# EAGLE library part HSWA4-63DR+ (library Air_Link)
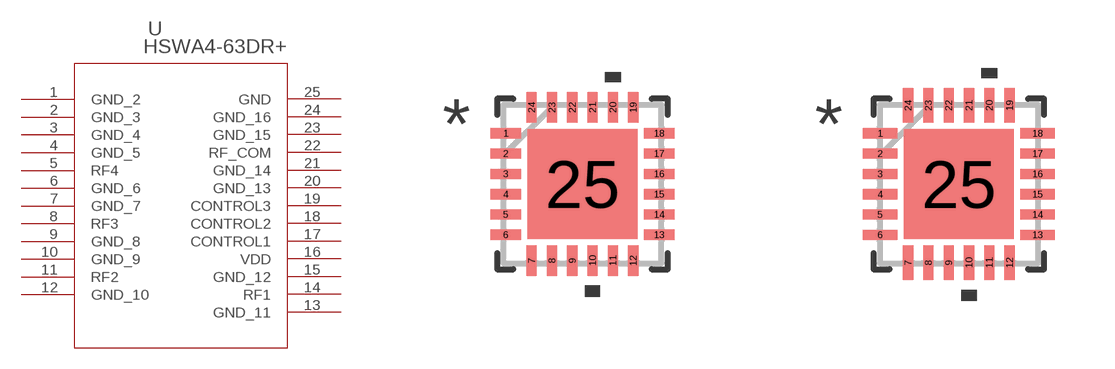
[diagram p3: symbol with the pads of DG984-1_MNC; footprints DG984-1_MNC, DG984-1_MNC-M]

Designator prefix U

## HSWA4-63DR+ (COPYRIGHT: Copyright (C) 2025 Ultra Librarian. All rights reserved.; MANUFACTURER_PART_NUMBER: HSWA4-63DR+; MFR_NAME: Mini Circuits)  [DG984-1_MNC]
1  GND_2  pas
2  GND_3  pas
3  GND_4  pas
4  GND_5  pas
5  RF4
6  GND_6  pas
7  GND_7  pas
8  RF3
9  GND_8  pas
10  GND_9  pas
11  RF2
12  GND_10  pas
13  GND_11  pas
14  RF1
15  GND_12  pas
16  VDD  pwr
17  CONTROL1  in
18  CONTROL2  in
19  CONTROL3  in
20  GND_13  pas
21  GND_14  pas
22  RF_COM
23  GND_15  pas
24  GND_16  pas
25  GND  pas

## HSWA4-63DR+DG984-1_MNC-M (COPYRIGHT: Copyright (C) 2025 Ultra Librarian. All rights reserved.; MANUFACTURER_PART_NUMBER: HSWA4-63DR+; MFR_NAME: Mini Circuits)  [DG984-1_MNC-M]
Pads as for DG984-1_MNC

## HSWA4-63DR+DG984-1_MNC-L (COPYRIGHT: Copyright (C) 2025 Ultra Librarian. All rights reserved.; MANUFACTURER_PART_NUMBER: HSWA4-63DR+; MFR_NAME: Mini Circuits)  [DG984-1_MNC-L]
Pads as for DG984-1_MNC

## Footprint DG984-1_MNC (pad centres in mm)
smd 0.762 x 0.254: 1 -1.918,1.27; 2 -1.918,0.762; 3 -1.918,0.254; 4 -1.918,-0.254; 5 -1.918,-0.762; 6 -1.918,-1.27; 13 1.918,-1.27; 14 1.918,-0.762; 15 1.918,-0.254; 16 1.918,0.254; 17 1.918,0.762; 18 1.918,1.27
smd 0.254 x 0.762: 7 -1.27,-1.918; 8 -0.762,-1.918; 9 -0.254,-1.918; 10 0.254,-1.918; 11 0.762,-1.918; 12 1.27,-1.918; 19 1.27,1.918; 20 0.762,1.918; 21 0.254,1.918; 22 -0.254,1.918; 23 -0.762,1.918; 24 -1.27,1.918
smd 2.743 x 2.743: 25 0,0

## Footprint DG984-1_MNC-M (pad centres in mm)
smd 0.864 x 0.254: 1 -1.968,1.27; 2 -1.968,0.762; 3 -1.968,0.254; 4 -1.968,-0.254; 5 -1.968,-0.762; 6 -1.968,-1.27; 13 1.968,-1.27; 14 1.968,-0.762; 15 1.968,-0.254; 16 1.968,0.254; 17 1.968,0.762; 18 1.968,1.27
smd 0.254 x 0.864: 7 -1.27,-1.968; 8 -0.762,-1.968; 9 -0.254,-1.968; 10 0.254,-1.968; 11 0.762,-1.968; 12 1.27,-1.968; 19 1.27,1.968; 20 0.762,1.968; 21 0.254,1.968; 22 -0.254,1.968; 23 -0.762,1.968; 24 -1.27,1.968
smd 2.743 x 2.743: 25 0,0

## Footprint DG984-1_MNC-L (pad centres in mm)
smd 0.66 x 0.254: 1 -1.867,1.27; 2 -1.867,0.762; 3 -1.867,0.254; 4 -1.867,-0.254; 5 -1.867,-0.762; 6 -1.867,-1.27; 13 1.867,-1.27; 14 1.867,-0.762; 15 1.867,-0.254; 16 1.867,0.254; 17 1.867,0.762; 18 1.867,1.27
smd 0.254 x 0.66: 7 -1.27,-1.867; 8 -0.762,-1.867; 9 -0.254,-1.867; 10 0.254,-1.867; 11 0.762,-1.867; 12 1.27,-1.867; 19 1.27,1.867; 20 0.762,1.867; 21 0.254,1.867; 22 -0.254,1.867; 23 -0.762,1.867; 24 -1.27,1.867
smd 2.743 x 2.743: 25 0,0